# EAGLE library part #ECL82 (library E88CC)
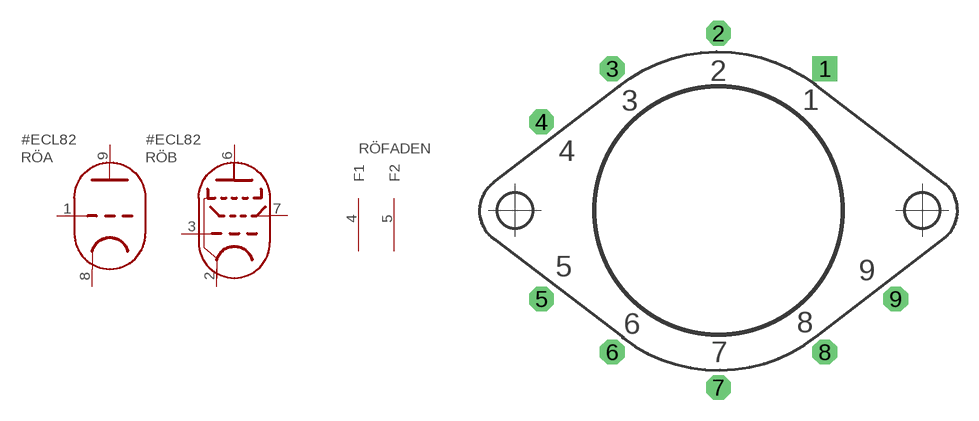
[diagram p16: symbol with the pads of NOVAL_G; footprint NOVAL_G]

Designator prefix RÖ; gates A=TRIODE B=PENTODEA FADEN=FADEN

## #ECL82  [NOVAL_G]
1  A:G  in
2  B:K_G3
3  B:G1  in
4  FADEN:F1  pwr
5  FADEN:F2  pwr
6  B:A  out
7  B:G2  in
8  A:K
9  A:A  out

## Footprint NOVAL_G (pad centres in mm)
drill 1 pad 1.778 square: 1 7.62,10.16
drill 1 pad 1.778 octagon: 2 0,12.7; 3 -7.62,10.16; 4 -12.7,6.35; 5 -12.7,-6.35; 6 -7.62,-10.16; 7 0,-12.7; 8 7.62,-10.16; 9 12.7,-6.35